# EAGLE library part AD5242_AD5242BRZ100 (library CounterModule)
I2C-Compatible,256-Position Digital Potentiometers
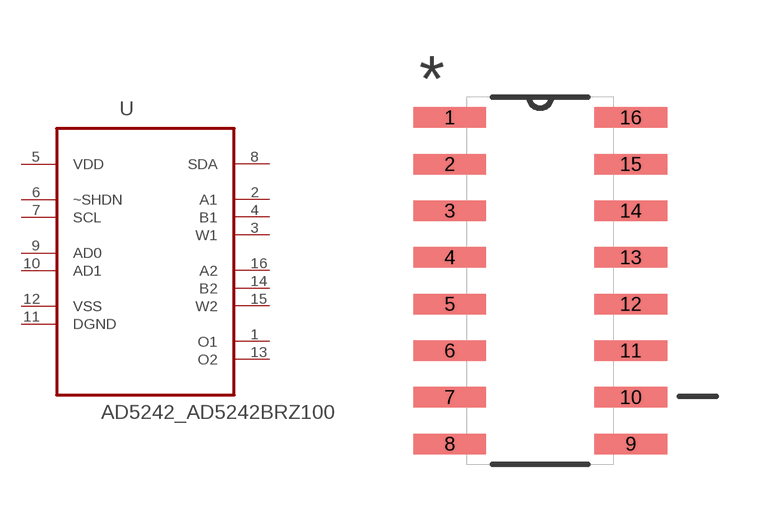
[diagram p0: symbol with the pads of AD5242_SOIC127P600X175-16N; footprint AD5242_SOIC127P600X175-16N]

Designator prefix U

## AD5242_AD5242BRZ100 (MPN: AD5242BRZ100; OC_FARNELL: 1079336; OC_NEWARK: 59K3700; PACKAGE: SOIC-16; SUPPLIER: Analog Devices)  [AD5242_SOIC127P600X175-16N]
1  O1  out
2  A1  pas
3  W1  pas
4  B1  pas
5  VDD  pwr
6  ~SHDN  pas
7  SCL  in
8  SDA
9  AD0  in
10  AD1  in
11  DGND  pas
12  VSS  pwr
13  O2  out
14  B2  pas
15  W2  pas
16  A2  pas

## Footprint AD5242_SOIC127P600X175-16N (pad centres in mm)
smd 1.981 x 0.559: 1 -2.464,4.445; 2 -2.464,3.175; 3 -2.464,1.905; 4 -2.464,0.635; 5 -2.464,-0.635; 6 -2.464,-1.905; 7 -2.464,-3.175; 8 -2.464,-4.445; 9 2.464,-4.445; 10 2.464,-3.175; 11 2.464,-1.905; 12 2.464,-0.635; 13 2.464,0.635; 14 2.464,1.905; 15 2.464,3.175; 16 2.464,4.445